# Altium schematic symbol library sld_design_v1.SchLib: 20 symbols
Pins are listed as number, name and electrical type; pins without a type are passive.

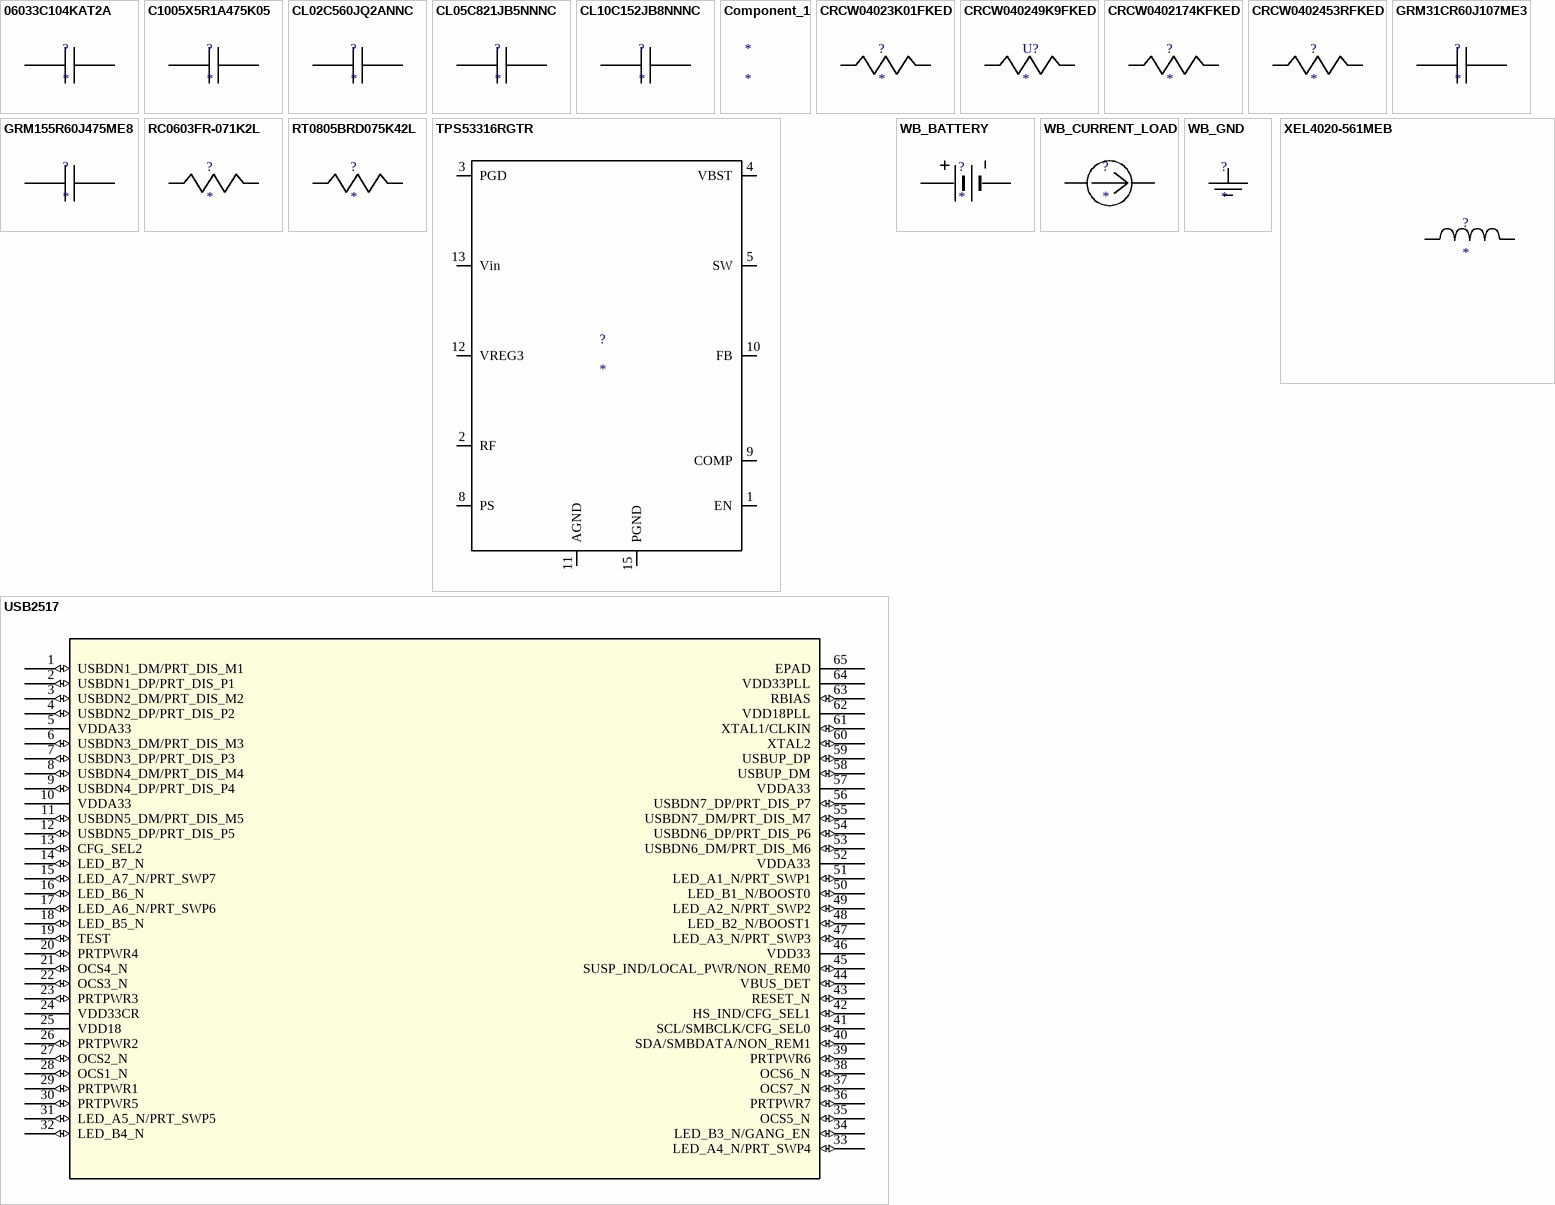
[diagram p0: symbols 06033C104KAT2A to XEL4020-561MEB]

## 06033C104KAT2A
designator ?
No Description Available; Manufacturer_Part_Number: 06033C104KAT2A; Vendor: AVX; Manufacturer_Name: AVX; Copyright: Copyright (C) 2018 Accelerated Designs. All rights reserved; RefDes: RefDes; TYPE: TYPE; Value: Value
footprint 0603
pins: 1, 2

## C1005X5R1A475K05
designator ?
No Description Available; Manufacturer_Part_Number: C1005X5R1A475K050BC; Vendor: TDK; Manufacturer_Name: TDK; Copyright: Copyright (C) 2018 Accelerated Designs. All rights reserved; RefDes: RefDes; TYPE: TYPE; Value: Value
footprint 0402_065
pins: 1, 2

## CL02C560JQ2ANNC
designator ?
No Description Available; Manufacturer_Part_Number: CL02C560JQ2ANNC; Vendor: Samsung Electro-Mechanics; Manufacturer_Name: Samsung Electro-Mechanics; Copyright: Copyright (C) 2018 Accelerated Designs. All rights reserved; RefDes: RefDes; TYPE: TYPE; Value: Value
footprint 01005
pins: 1, 2

## CL05C821JB5NNNC
designator ?
No Description Available; Manufacturer_Part_Number: CL05C821JB5NNNC; Vendor: Samsung Electro-Mechanics; Manufacturer_Name: Samsung Electro-Mechanics; Copyright: Copyright (C) 2018 Accelerated Designs. All rights reserved; RefDes: RefDes; TYPE: TYPE; Value: Value
footprint 0402
pins: 1, 2

## CL10C152JB8NNNC
designator ?
No Description Available; Manufacturer_Part_Number: CL10C152JB8NNNC; Vendor: Samsung Electro-Mechanics; Manufacturer_Name: Samsung Electro-Mechanics; Copyright: Copyright (C) 2018 Accelerated Designs. All rights reserved; RefDes: RefDes; TYPE: TYPE; Value: Value
footprint 0603
pins: 1, 2

## Component_1
designator *

## CRCW04023K01FKED
designator ?
No Description Available; Manufacturer_Part_Number: CRCW04023K01FKED; Vendor: Vishay-Dale; Manufacturer_Name: Vishay-Dale; Copyright: Copyright (C) 2018 Accelerated Designs. All rights reserved; RefDes: RefDes; TYPE: TYPE; Value: Value
footprint 0402
pins: 1, 2

## CRCW040249K9FKED
designator U?
No Description Available; PartNumber: CRCW040249K9FKED; Manufacturer_Name: Vishay-Dale; Res_ohm: 49900; Power_W: 0.063; Manufacturer_Part_Number: CRCW040249K9FKED; Copyright: Copyright (C) 2018 Accelerated Designs. All rights reserved; RefDes: RefDes; TYPE: TYPE; Value: Value
footprint 0402
pins: 1, 2

## CRCW0402174KFKED
designator ?
No Description Available; Manufacturer_Part_Number: CRCW0402174KFKED; Vendor: Vishay-Dale; Manufacturer_Name: Vishay-Dale; Copyright: Copyright (C) 2018 Accelerated Designs. All rights reserved; RefDes: RefDes; TYPE: TYPE; Value: Value
footprint 0402
pins: 1, 2

## CRCW0402453RFKED
designator ?
No Description Available; Manufacturer_Part_Number: CRCW0402453RFKED; Vendor: Vishay-Dale; Manufacturer_Name: Vishay-Dale; Copyright: Copyright (C) 2018 Accelerated Designs. All rights reserved; RefDes: RefDes; TYPE: TYPE; Value: Value
footprint 0402
pins: 1, 2

## GRM31CR60J107ME3
designator ?
No Description Available; Manufacturer_Part_Number: GRM31CR60J107ME39L; Vendor: MuRata; Manufacturer_Name: MuRata; Copyright: Copyright (C) 2018 Accelerated Designs. All rights reserved; RefDes: RefDes; TYPE: TYPE; Value: Value
footprint 1206_190
pins: 1, 2

## GRM155R60J475ME8
designator ?
No Description Available; Manufacturer_Part_Number: GRM155R60J475ME87D; Vendor: MuRata; Manufacturer_Name: MuRata; Copyright: Copyright (C) 2018 Accelerated Designs. All rights reserved; RefDes: RefDes; TYPE: TYPE; Value: Value
footprint 0402_065
pins: 1, 2

## RC0603FR-071K2L
designator ?
No Description Available; Manufacturer_Part_Number: RC0603FR-071K2L; Manufacturer_Name: Yageo; Vendor: Yageo America; Copyright: Copyright (C) 2018 Accelerated Designs. All rights reserved; RefDes: RefDes; TYPE: TYPE; Value: Value
footprint 0603
pins: 1, 2

## RT0805BRD075K42L
designator ?
No Description Available; Manufacturer_Part_Number: RT0805BRD075K42L; Manufacturer_Name: Yageo; Vendor: Yageo America; Copyright: Copyright (C) 2018 Accelerated Designs. All rights reserved; RefDes: RefDes; TYPE: TYPE; Value: Value
footprint 0805
pins: 1, 2

## TPS53316RGTR
designator ?
No Description Available; Manufacturer_Part_Number: TPS53316RGTR; Vendor: Texas Instruments; Manufacturer_Name: Texas Instruments; Copyright: Copyright (C) 2018 Accelerated Designs. All rights reserved; RefDes: RefDes; TYPE: TYPE; Value: Value
footprint RGT0016C
pins: 1 EN, 2 RF, 3 PGD, 4 VBST, 5 SW, 6 SW, 7 SW, 8 PS, 9 COMP, 10 FB, 11 AGND, 12 VREG3, 13 Vin, 14 Vin, 15 PGND, 16 PGND, 17 AGND

## USB2517
designator ?
The 7-Port Hub is a low power, OEM configurable, MTT / (multi transaction translator) hub controller IC with 7 / downstream ports for embedded USB solutions. The 7- / port hub is fully compliant with the USB 2.0 Specifica- / tion and will attach to an upstream port as a Full-Speed / Hub or as a Full-/Hi-Speed Hub. The 7-Port Hub sup- / ports Low-Speed, Full-Speed, and Hi-Speed (if operat- / ing as a Hi-Speed Hub) downstream devices on all of / the enabled downstream ports.
footprint QFN64_9x9MC_MCH
pins: 1 USBDN1_DM/PRT_DIS_M1 (io), 2 USBDN1_DP/PRT_DIS_P1 (io), 3 USBDN2_DM/PRT_DIS_M2 (io), 4 USBDN2_DP/PRT_DIS_P2 (io), 5 VDDA33 (power), 6 USBDN3_DM/PRT_DIS_M3 (io), 7 USBDN3_DP/PRT_DIS_P3 (io), 8 USBDN4_DM/PRT_DIS_M4 (io), 9 USBDN4_DP/PRT_DIS_P4 (io), 10 VDDA33 (power), 11 USBDN5_DM/PRT_DIS_M5 (io), 12 USBDN5_DP/PRT_DIS_P5 (io), 13 CFG_SEL2 (io), 14 LED_B7_N (io), 15 LED_A7_N/PRT_SWP7 (io), 16 LED_B6_N (io), 17 LED_A6_N/PRT_SWP6 (io), 18 LED_B5_N (io), 19 TEST (io), 20 PRTPWR4 (io), 21 OCS4_N (io), 22 OCS3_N (io), 23 PRTPWR3 (io), 24 VDD33CR (power), 25 VDD18 (power), 26 PRTPWR2 (io), 27 OCS2_N (io), 28 OCS1_N (io), 29 PRTPWR1 (io), 30 PRTPWR5 (io), 31 LED_A5_N/PRT_SWP5 (io), 32 LED_B4_N (io), 33 LED_A4_N/PRT_SWP4 (io), 34 LED_B3_N/GANG_EN (io), 35 OCS5_N (io), 36 PRTPWR7 (io), 37 OCS7_N (io), 38 OCS6_N (io), 39 PRTPWR6 (io), 40 SDA/SMBDATA/NON_REM1 (io), 41 SCL/SMBCLK/CFG_SEL0 (io), 42 HS_IND/CFG_SEL1 (io), 43 RESET_N (io), 44 VBUS_DET (io), 45 SUSP_IND/LOCAL_PWR/NON_REM0 (io), 46 VDD33 (power), 47 LED_A3_N/PRT_SWP3 (io), 48 LED_B2_N/BOOST1 (io), 49 LED_A2_N/PRT_SWP2 (io), 50 LED_B1_N/BOOST0 (io), 51 LED_A1_N/PRT_SWP1 (io), 52 VDDA33 (power), 53 USBDN6_DM/PRT_DIS_M6 (io), 54 USBDN6_DP/PRT_DIS_P6 (io), 55 USBDN7_DM/PRT_DIS_M7 (io), 56 USBDN7_DP/PRT_DIS_P7 (io), 57 VDDA33 (power), 58 USBUP_DM (io), 59 USBUP_DP (io), 60 XTAL2 (io), 61 XTAL1/CLKIN (io), 62 VDD18PLL (power), 63 RBIAS (io), 64 VDD33PLL (power), 65 EPAD

## WB_BATTERY
designator ?
No Description Available; Manufacturer_Part_Number: WB_BATTERY; PowerPortType: POWER_GROUND; Value: Value; Manufacturer_Name: WB_BATTERY; Copyright: Copyright (C) 2018 Accelerated Designs. All rights reserved; RefDes: RefDes; TYPE: TYPE
pins: 1 +, 2 -

## WB_CURRENT_LOAD
designator ?
No Description Available; Manufacturer_Part_Number: WB_CURRENT_LOAD; PowerPortType: POWER_GROUND; Value: Value; Manufacturer_Name: WB_CURRENT_LOAD; Copyright: Copyright (C) 2018 Accelerated Designs. All rights reserved; RefDes: RefDes; TYPE: TYPE
pins: 1 +, 2 -

## WB_GND
designator ?
No Description Available; Manufacturer_Part_Number: WB_GND; PowerPortType: POWER_GROUND; Value: Value; Manufacturer_Name: WB_GND; Copyright: Copyright (C) 2018 Accelerated Designs. All rights reserved; RefDes: RefDes; TYPE: TYPE
pins: 1

## XEL4020-561MEB
designator ?
No Description Available; Manufacturer_Part_Number: XEL4020-561MEB; Vendor: Coilcraft; Manufacturer_Name: Coilcraft; Copyright: Copyright (C) 2018 Accelerated Designs. All rights reserved; RefDes: RefDes; TYPE: TYPE; Value: Value
footprint XEL4020
pins: 1, 2